# Altium schematic symbol library p-mosfet-SSSGDDDD_1.Schlib: 1 symbol
Pins are listed as number, name and electrical type; pins without a type are passive.

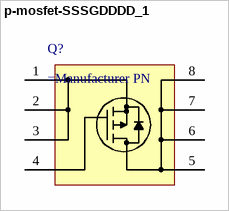
[diagram p0: symbol p-mosfet-SSSGDDDD_1]

## p-mosfet-SSSGDDDD_1
designator Q?
P-Channel MOSFET, 8-pin, No G-S Zener
pins: 1 S, 2 S, 3 S, 4 G, 5 D, 6 D, 7 D, 8 D